# Altium schematic symbol library MCU.SchLib: 6 symbols
Pins are listed as number, name and electrical type; pins without a type are passive.

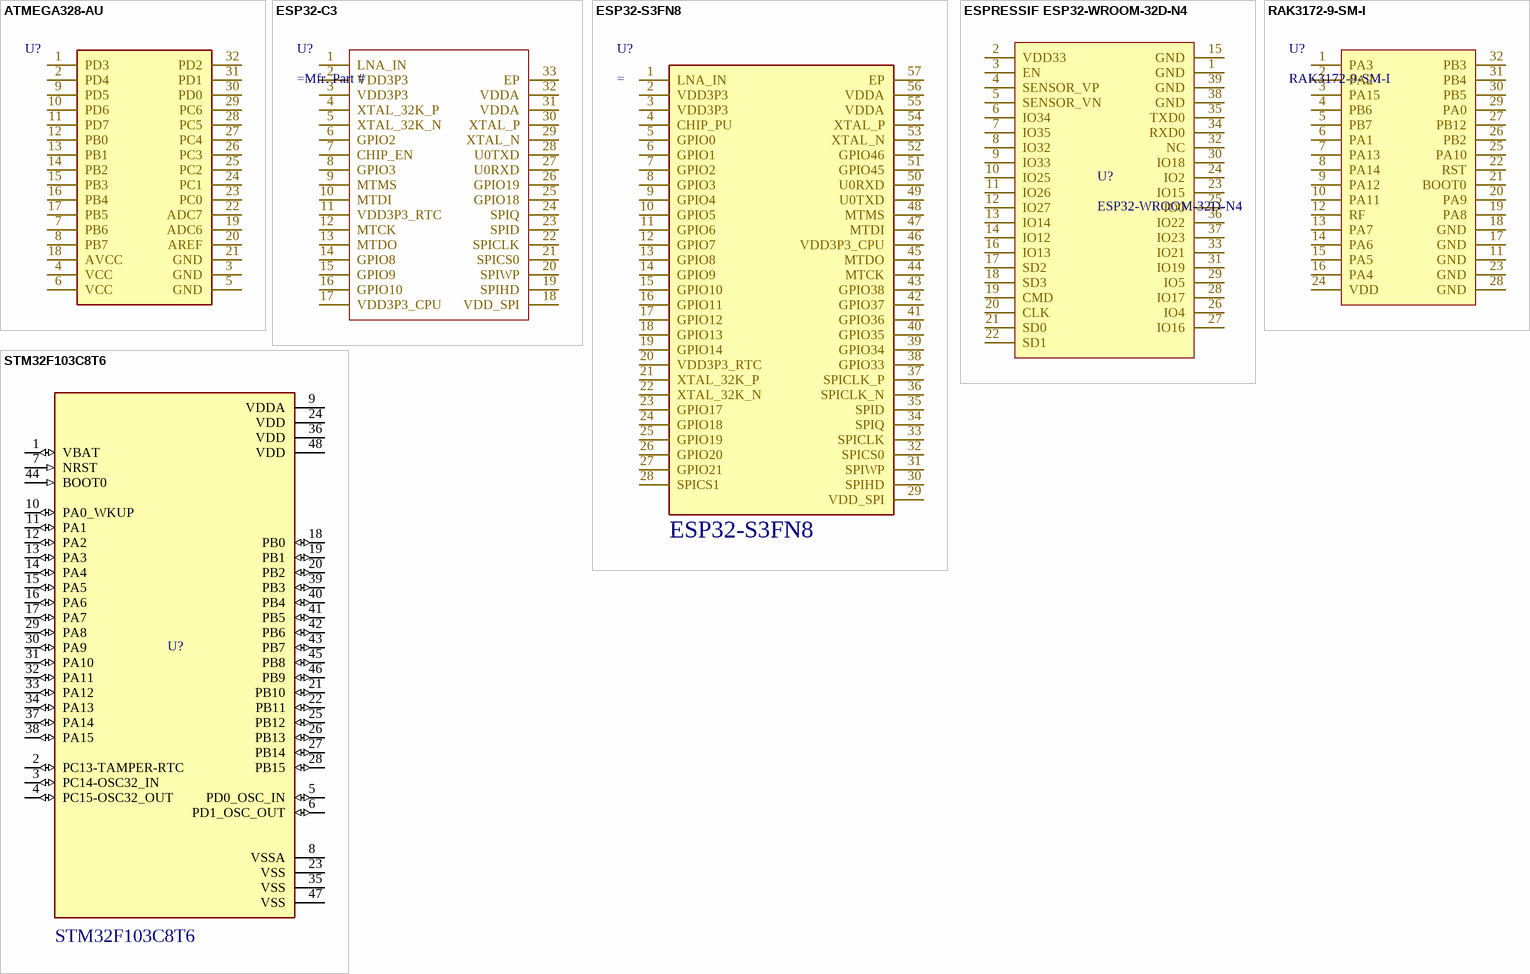
[diagram p0: symbols ATMEGA328-AU to STM32F103C8T6]

## ATMEGA328-AU
designator U?
AVR 20MHz TQFP-32(7x7) Microcontrollers (MCU/MPU/SOC) ROHS; Manufacturer: MICROCHIP; Mfr. Part #: ATMEGA328-AU; Voltage - Supply: 1.8V~5.5V; Program Storage Size: 32KB; ADC (Bit): 10bit; Number of I/O: 23; LCSC Part #: C618731; Package: TQFP-32(7x7); CPU Core: AVR; CPU Maximum Speed: 20MHz; Link: https://www.lcsc.com/product-detail/C618731.html?s_z=n_C618731
footprint ATMEGA328-AU
pins: 1 PD3, 2 PD4, 3 GND, 4 VCC, 5 GND, 6 VCC, 7 PB6, 8 PB7, 9 PD5, 10 PD6, 11 PD7, 12 PB0, 13 PB1, 14 PB2, 15 PB3, 16 PB4, 17 PB5, 18 AVCC, 19 ADC6, 20 AREF, 21 GND, 22 ADC7, 23 PC0, 24 PC1, 25 PC2, 26 PC3, 27 PC4, 28 PC5, 29 PC6, 30 PD0, 31 PD1, 32 PD2

## ESP32-C3
designator U?
Others 160MHz QFN-32-EP(5x5) RF Transceiver Modules and Modems RoHS; Manufacturer: ESPRESSIF; LCSC Part #: C2838500; Package: QFN-32-EP(5x5); Link: https://www.lcsc.com/product-detail/C2838500.html?s_z=n_ESP32%2520C3
footprint ESP32-C3 (Others 160MHz QFN-32-EP(5x5) RF Transceiver Modules and Modems RoHS)
pins: 1 LNA_IN, 2 VDD3P3, 3 VDD3P3, 4 XTAL_32K_P, 5 XTAL_32K_N, 6 GPIO2, 7 CHIP_EN, 8 GPIO3, 9 MTMS, 10 MTDI, 11 VDD3P3_RTC, 12 MTCK, 13 MTDO, 14 GPIO8, 15 GPIO9, 16 GPIO10, 17 VDD3P3_CPU, 18 VDD_SPI, 19 SPIHD, 20 SPIWP, 21 SPICS0, 22 SPICLK, 23 SPID, 24 SPIQ, 25 GPIO18, 26 GPIO19, 27 U0RXD, 28 U0TXD, 29 XTAL_N, 30 XTAL_P, 31 VDDA, 32 VDDA, 33 EP

## ESP32-S3FN8
designator U?  Mfr. Part #: ESP32-S3FN8
QFN-56-EP(7x7) Microcontrollers (MCU/MPU/SOC) ROHS; Manufacturer: ESPRESSIF; LCSC Part #: C2913196; Package: QFN-56-EP(7x7); Link: https://www.lcsc.com/product-detail/C2913196.html?s_z=n_ESP32-S3FN8; Parameter 6: *; Parameter 7: *; Parameter 8: *
footprint ESP32-S3FN8
pins: 1 LNA_IN, 2 VDD3P3, 3 VDD3P3, 4 CHIP_PU, 5 GPIO0, 6 GPIO1, 7 GPIO2, 8 GPIO3, 9 GPIO4, 10 GPIO5, 11 GPIO6, 12 GPIO7, 13 GPIO8, 14 GPIO9, 15 GPIO10, 16 GPIO11, 17 GPIO12, 18 GPIO13, 19 GPIO14, 20 VDD3P3_RTC, 21 XTAL_32K_P, 22 XTAL_32K_N, 23 GPIO17, 24 GPIO18, 25 GPIO19, 26 GPIO20, 27 GPIO21, 28 SPICS1, 29 VDD_SPI, 30 SPIHD, 31 SPIWP, 32 SPICS0, 33 SPICLK, 34 SPIQ, 35 SPID, 36 SPICLK_N, 37 SPICLK_P, 38 GPIO33, 39 GPIO34, 40 GPIO35, 41 GPIO36, 42 GPIO37, 43 GPIO38, 44 MTCK, 45 MTDO, 46 VDD3P3_CPU, 47 MTDI, 48 MTMS, 49 U0TXD, 50 U0RXD, 51 GPIO45, 52 GPIO46, 53 XTAL_N, 54 XTAL_P, 55 VDDA, 56 VDDA, 57 EP

## ESPRESSIF ESP32-WROOM-32D-N4
designator U?, comment ESP32-WROOM-32D-N4
SMD,18x25.5mm WiFi Modules ROHS; Manufacturer: ESPRESSIF; Mfr. Part #: ESP32-WROOM-32D-N4; LCSC Part #: C473012; Package: SMD,18x25.5mm; Link: https://www.lcsc.com/product-detail/C473012.html?s_z=n_esp32-wroom-32d
footprint ESP32-WROOM-32D-N4
pins: 1 GND, 2 VDD33, 3 EN, 4 SENSOR_VP, 5 SENSOR_VN, 6 IO34, 7 IO35, 8 IO32, 9 IO33, 10 IO25, 11 IO26, 12 IO27, 13 IO14, 14 IO12, 15 GND, 16 IO13, 17 SD2, 18 SD3, 19 CMD, 20 CLK, 21 SD0, 22 SD1, 23 IO15, 24 IO2, 25 IO0, 26 IO4, 27 IO16, 28 IO17, 29 IO5, 30 IO18, 31 IO19, 32 NC, 33 IO21, 34 RXD0, 35 TXD0, 36 IO22, 37 IO23, 38 GND, 39 GND

## RAK3172-9-SM-I
designator U?
15km SMD,15.5x15mm LoRa Modules ROHS; Manufacturer: RAKwireless; Key Attributes: WisDuo LPWAN Module; Voltage - Supply: 2V~3.6V; Antenna Type: IPEX Connector; Interface Type: UART;SPI;I2C; Package: SMD,15.5x15mm; LCSC Part #: C19723905; Mfr. Part #: RAK3172-9-SM-I; Link: https://www.lcsc.com/product-detail/C19723905.html?s_z=n_RAK3172
footprint RAK3172-9-SM-I
pins: 1 PA3, 2 PA2, 3 PA15, 4 PB6, 5 PB7, 6 PA1, 7 PA13, 8 PA14, 9 PA12, 10 PA11, 11 GND, 12 RF, 13 PA7, 14 PA6, 15 PA5, 16 PA4, 17 GND, 18 GND, 19 PA8, 20 PA9, 21 BOOT0, 22 RST, 23 GND, 24 VDD, 25 PA10, 26 PB2, 27 PB12, 28 GND, 29 PA0, 30 PB5, 31 PB4, 32 PB3

## STM32F103C8T6
designator U?  Mfr. Part #: STM32F103C8T6
ARM-M3 72MHz LQFP-48(7x7) Microcontrollers (MCU/MPU/SOC) ROHS; Manufacturer: ST; ADC (Bit): 12bit; Number of I/O: 37; Program Storage Size: 64KB; Voltage - Supply: 2V~3.6V; Link: https://www.lcsc.com/product-detail/C8734.html?s_z=n_STM32F103C8T6; Package: LQFP-48(7x7); CPU Core: ARM-M3; CPU Maximum Speed: 72Mhz
footprint STM32F103C8T6
pins: 1 VBAT (io), 2 PC13-TAMPER-RTC (io), 3 PC14-OSC32_IN (io), 4 PC15-OSC32_OUT (io), 5 PD0_OSC_IN (io), 6 PD1_OSC_OUT (io), 7 NRST (in), 8 VSSA (power), 9 VDDA (power), 10 PA0_WKUP (io), 11 PA1 (io), 12 PA2 (io), 13 PA3 (io), 14 PA4 (io), 15 PA5 (io), 16 PA6 (io), 17 PA7 (io), 18 PB0 (io), 19 PB1 (io), 20 PB2 (io), 21 PB10 (io), 22 PB11 (io), 23 VSS (power), 24 VDD (power), 25 PB12 (io), 26 PB13 (io), 27 PB14 (io), 28 PB15 (io), 29 PA8 (io), 30 PA9 (io), 31 PA10 (io), 32 PA11 (io), 33 PA12 (io), 34 PA13 (io), 35 VSS (power), 36 VDD (power), 37 PA14 (io), 38 PA15 (io), 39 PB3 (io), 40 PB4 (io), 41 PB5 (io), 42 PB6 (io), 43 PB7 (io), 44 BOOT0 (in), 45 PB8 (io), 46 PB9 (io), 47 VSS (power), 48 VDD (power)